# EAGLE library part AS-ITM-00256 (library tinycircuits)
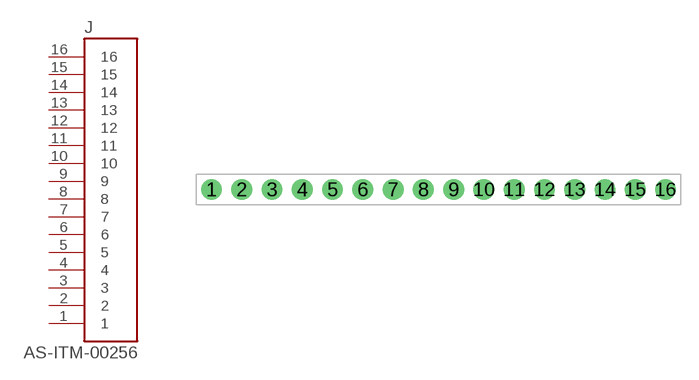
[diagram p103: symbol with the pads of 1X16_.1_TH_HEADER; footprint 1X16_.1_TH_HEADER]

Designator prefix J

## AS-ITM-00256 (PARTNO: AS-ITM-00256)  [1X16_.1_TH_HEADER]
1  1
2  2
3  3
4  4
5  5
6  6
7  7
8  8
9  9
10  10
11  11
12  12
13  13
14  14
15  15
16  16

## Footprint 1X16_.1_TH_HEADER (pad centres in mm)
drill 1 pad 1.75: 1 -19.05,0; 2 -16.51,0; 3 -13.97,0; 4 -11.43,0; 5 -8.89,0; 6 -6.35,0; 7 -3.81,0; 8 -1.27,0; 9 1.27,0; 10 3.81,0; 11 6.35,0; 12 8.89,0; 13 11.43,0; 14 13.97,0; 15 16.51,0; 16 19.05,0